# EAGLE library part ROBOBUS (library robobus)
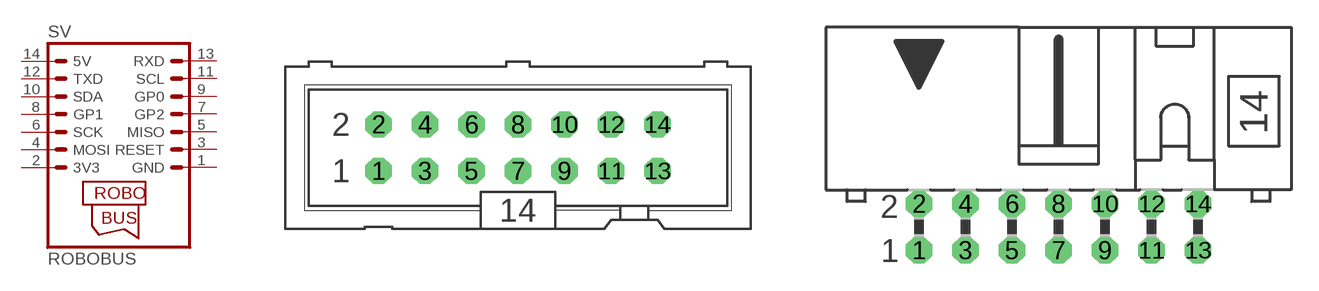
[diagram p0: symbol with the pads of ML14; footprints ML14, ML14L]

Designator prefix SV

## ROBOBUS  [ML14]
1  GND  pas
2  3V3  pas
3  RESET  pas
4  MOSI  pas
5  MISO  pas
6  SCK  pas
7  GP2  pas
8  GP1  pas
9  GP0  pas
10  SDA  pas
11  SCL  pas
12  TXD  pas
13  RXD  pas
14  5V  pas

## ROBOBUSR  [ML14L]
Pads as for ML14

## Footprint ML14 (pad centres in mm)
HARTING
drill 0.914 octagon: 1 -7.62,-1.27; 2 -7.62,1.27; 3 -5.08,-1.27; 4 -5.08,1.27; 5 -2.54,-1.27; 6 -2.54,1.27; 7 0,-1.27; 8 0,1.27; 9 2.54,-1.27; 10 2.54,1.27; 11 5.08,-1.27; 12 5.08,1.27; 13 7.62,-1.27; 14 7.62,1.27

## Footprint ML14L (pad centres in mm)
HARTING
drill 0.914 octagon: 1 -7.62,-1.27; 2 -7.62,1.27; 3 -5.08,-1.27; 4 -5.08,1.27; 5 -2.54,-1.27; 6 -2.54,1.27; 7 0,-1.27; 8 0,1.27; 9 2.54,-1.27; 10 2.54,1.27; 11 5.08,-1.27; 12 5.08,1.27; 13 7.62,-1.27; 14 7.62,1.27